# Altium schematic symbol library QUTMS_JumperLibrary.SchLib: 11 symbols
Pins are listed as number, name and electrical type; pins without a type are passive.

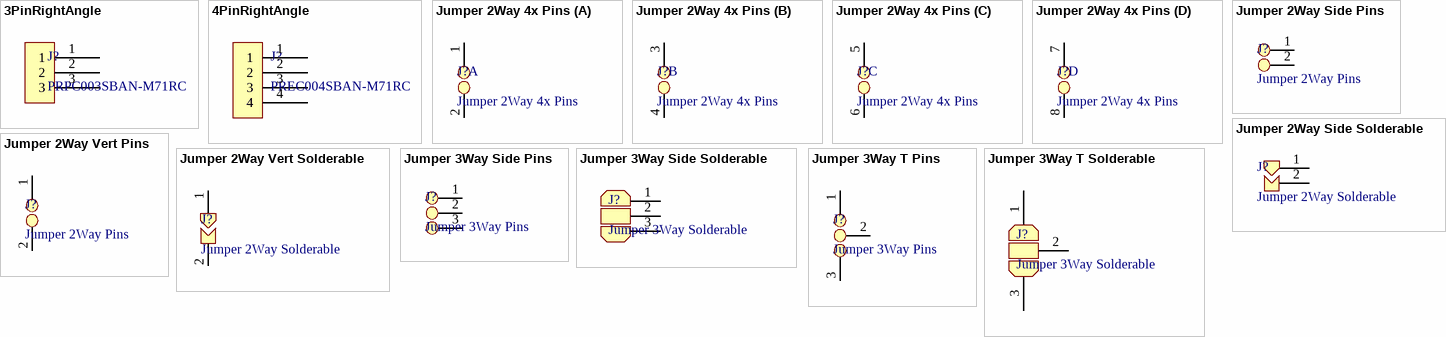
[diagram p0: symbols 3PinRightAngle to Jumper 3Way T Solderable]

## 3PinRightAngle
designator J?, comment PRPC003SBAN-M71RC
footprint 3PinRightAngle
pins: 1, 2, 3

## 4PinRightAngle
designator J?, comment PREC004SBAN-M71RC
footprint 4PinRightAngle
pins: 1, 2, 3, 4

## Jumper 2Way 4x Pins
designator J?
footprint JUMPER_2WAY_4x_RIGHT_TH
part A pins: 1, 2
part B pins: 3, 4
part C pins: 5, 6
part D pins: 7, 8

## Jumper 2Way Side Pins
designator J?, comment Jumper 2Way Pins
Jumper 2Way Side Pins
footprint Jumper_2Way_Pin
pins: 1, 2

## Jumper 2Way Side Solderable
designator J?, comment Jumper 2Way Solderable
Jumper 2Way Side Solderable
footprint Jumper_2Way_Solderable
pins: 1, 2

## Jumper 2Way Vert Pins
designator J?, comment Jumper 2Way Pins
Jumper 2Way Vert Pins
footprint Jumper_2Way_Pin
pins: 1, 2

## Jumper 2Way Vert Solderable
designator J?, comment Jumper 2Way Solderable
Jumper 2Way Vert Solderable
footprint Jumper_2Way_Solderable
pins: 1, 2

## Jumper 3Way Side Pins
designator J?, comment Jumper 3Way Pins
Jumper 3Way Side Pins
footprint Jumper_3Way_Pin
pins: 1, 2, 3

## Jumper 3Way Side Solderable
designator J?, comment Jumper 3Way Solderable
Jumper 3Way Side Solderable
footprint Jumper_3Way_Solderable
pins: 1, 2, 3

## Jumper 3Way T Pins
designator J?, comment Jumper 3Way Pins
Jumper 3Way T Pins
footprint Jumper_3Way_Pin
pins: 1, 2, 3

## Jumper 3Way T Solderable
designator J?, comment Jumper 3Way Solderable
Jumper 3Way T Solderable
footprint Jumper_3Way_Solderable
pins: 1, 2, 3